# EAGLE library part TLC555CD (library TLC555CD)
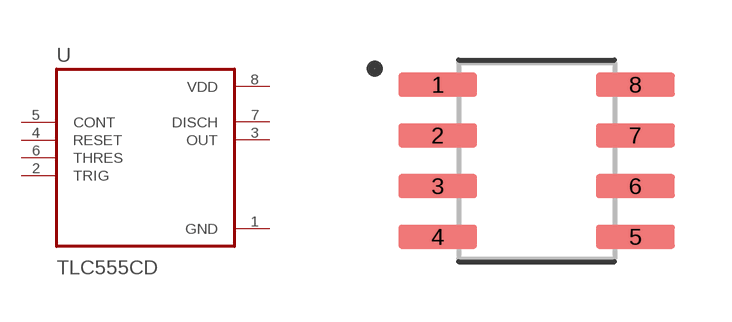
[diagram p0: symbol with the pads of SOIC127P599X175-8N; footprint SOIC127P599X175-8N]

Designator prefix U

## TLC555CD (Description: 2.1-MHz, 250-A, Low-Power Timer 8-SOIC 0 to 70; Digi-Key_Part_Number: 296-52992-ND; MF: Texas Instruments; MP: TLC555CD; Package: SOIC-8 Texas Instruments; Purchase-URL: https://pricing.snapeda.com/search/part/TLC555CD/?ref=eda)  [SOIC127P599X175-8N]
1  GND  pwr
2  TRIG  in
3  OUT  out
4  RESET  in
5  CONT  in
6  THRES  in
7  DISCH  out
8  VDD  pwr

## Footprint SOIC127P599X175-8N (pad centres in mm)
smd 1.97 x 0.6: 1 -2.47,1.905; 2 -2.47,0.635; 3 -2.47,-0.635; 4 -2.47,-1.905; 5 2.47,-1.905; 6 2.47,-0.635; 7 2.47,0.635; 8 2.47,1.905